# Altium footprint library ACS712.PcbLib: 1 footprints
Each footprint in its own frame and in the unit in brackets; x right, y up, seen from the top. Pads: shape width x height; smd on the part's side, far side on the other; paste and mask are expansions set on the pad; w line width, h text height; cw(c..) or ccw(c..) is an arc to the next point about the centre after c.
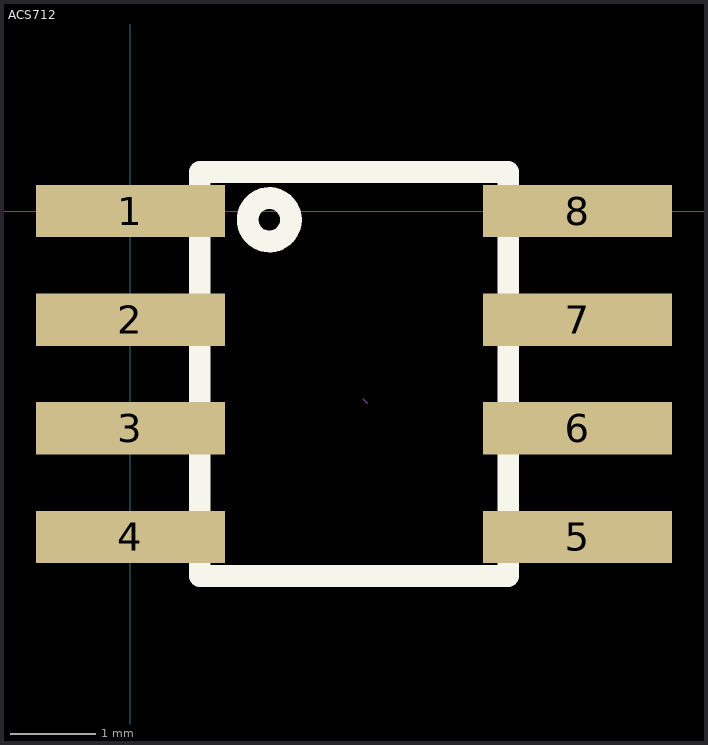
[diagram p0: the footprint, top view; thin cyan lines are the x and y axes]

## ACS712 [mil]
pads (8):
  rect 87x24 smd: 1(0,0) 2(0,-50) 3(0,-100) 4(0,-150) 5(206,-150) 6(206,-100) 7(206,-50) 8(206,0)
Top Overlay:
  circle w10: c64,-4 r10
  lines w10: 32,-168 32,-75 32,18 174,18 174,-168 32,-168
Mechanical 15:
  lines w0.1: 107,-86.5 109,-88.5